# Altium footprint library SOP254P700X300-4N.PcbLib: 1 footprints
Each footprint in its own frame and in the unit in brackets; x right, y up, seen from the top. Pads: shape width x height; smd on the part's side, far side on the other; paste and mask are expansions set on the pad; w line width, h text height; cw(c..) or ccw(c..) is an arc to the next point about the centre after c.
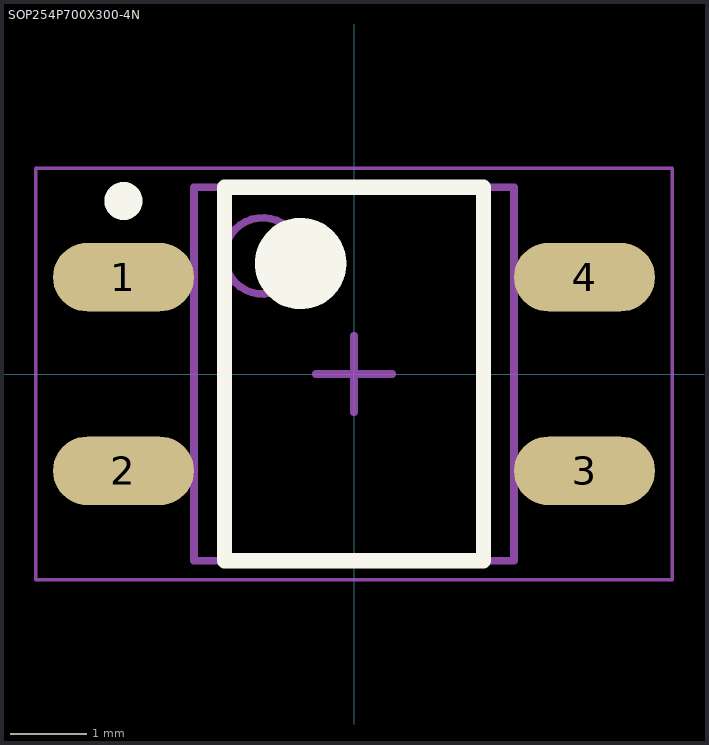
[diagram p0: the footprint, top view; thin cyan lines are the x and y axes]

## SOP254P700X300-4N [mm] "SOP, 4-Leads, Body 4,70x4,00mm, Pitch 2,54mm, IPC Medium Density"
height 3
pads (4):
  oval 1.85x0.9 smd: 1(-3.025,1.27) 2(-3.025,-1.27) 3(3.025,-1.27) 4(3.025,1.27)
Top Overlay:
  circle w0.25: c-3.025,2.27 r0.125
  circle w0.6: c-0.7,1.45 r0.3
  lines w0.2: -1.7,-2.45 -1.7,2.45 1.7,2.45 1.7,-2.45 -1.7,-2.45
Top Assembly:
  circle w0.1: c-1.2,1.55 r0.5
  lines w0.1: -2.1,-2.45 -2.1,2.45 2.1,2.45 2.1,-2.45 -2.1,-2.45
Top Courtyard:
  lines w0.05: -4.175,-2.7 -4.175,2.7 4.175,2.7 4.175,-2.7 -4.175,-2.7
  lines w0.1: -0.5,0 0.5,0 ; 0,-0.5 0,0.5
3D body "SOP254P700X300-4N.step": height 3, standoff 0, extent -3.5,-2.45 3.5,2.45